# EAGLE library part CURTIS (library ecar)
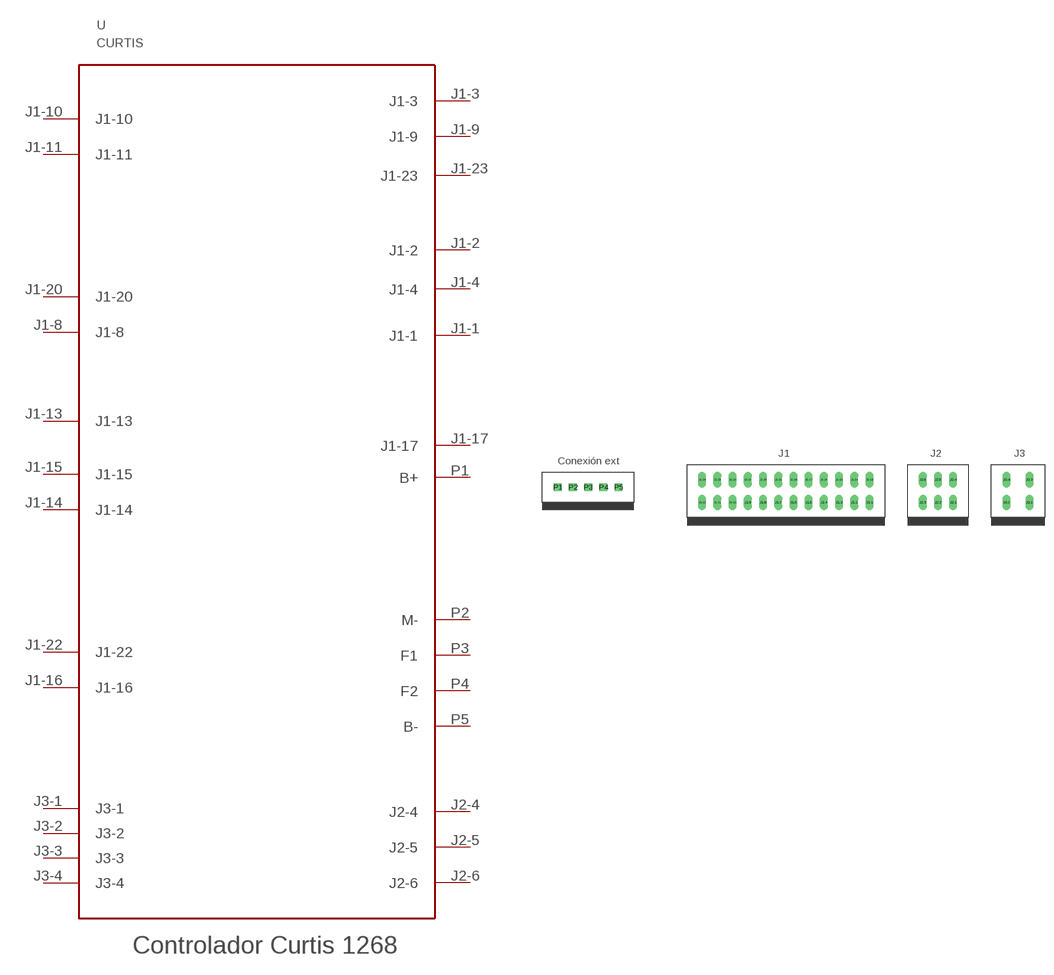
[diagram p0: symbol with the pads of CURTIS; footprint CURTIS]

Designator prefix -

## CURTIS  [CURTIS]
J1-1  J1-1
J1-2  J1-2
J1-3  J1-3
J1-4  J1-4
J1-8  J1-8
J1-9  J1-9
J1-10  J1-10
J1-11  J1-11
J1-13  J1-13
J1-14  J1-14
J1-15  J1-15
J1-16  J1-16
J1-17  J1-17
J1-20  J1-20
J1-22  J1-22
J1-23  J1-23
J2-4  J2-4
J2-5  J2-5
J2-6  J2-6
J3-1  J3-1
J3-2  J3-2
J3-3  J3-3
J3-4  J3-4
P1  B+
P2  M-
P3  F1
P4  F2
P5  B-

## Footprint CURTIS (pad centres in mm)
Footprint de la clema de conexiones de Curtis
drill 0.8 long: J1-1 8.89,0; J1-2 6.35,0; J1-3 3.81,0; J1-4 1.27,0; J1-5 -1.27,0; J1-6 -3.81,0; J1-7 -6.35,0; J1-8 -8.89,0; J1-9 -11.43,0; J1-10 -13.97,0; J1-11 -16.51,0; J1-12 -19.05,0; J1-13 8.89,3.81; J1-14 6.35,3.81; J1-15 3.81,3.81; J1-16 1.27,3.81; J1-17 -1.27,3.81; J1-18 -3.81,3.81; J1-19 -6.35,3.81; J1-20 -8.89,3.81; J1-21 -11.43,3.81; J1-22 -13.97,3.81; J1-23 -16.51,3.81; J1-24 -19.05,3.81; J2-1 22.86,0; J2-2 20.32,0; J2-3 17.78,0; J2-4 22.86,3.81; J2-5 20.32,3.81; J2-6 17.78,3.81; J3-1 35.56,0; J3-2 31.75,0; J3-3 35.56,3.81; J3-4 31.75,3.81
drill 0.8 square: P1 -43.18,2.54; P2 -40.64,2.54; P3 -38.1,2.54; P4 -35.56,2.54; P5 -33.02,2.54